# Altium integrated library TI Audio CODEC.IntLib: 199 symbols (part 11 of 17)
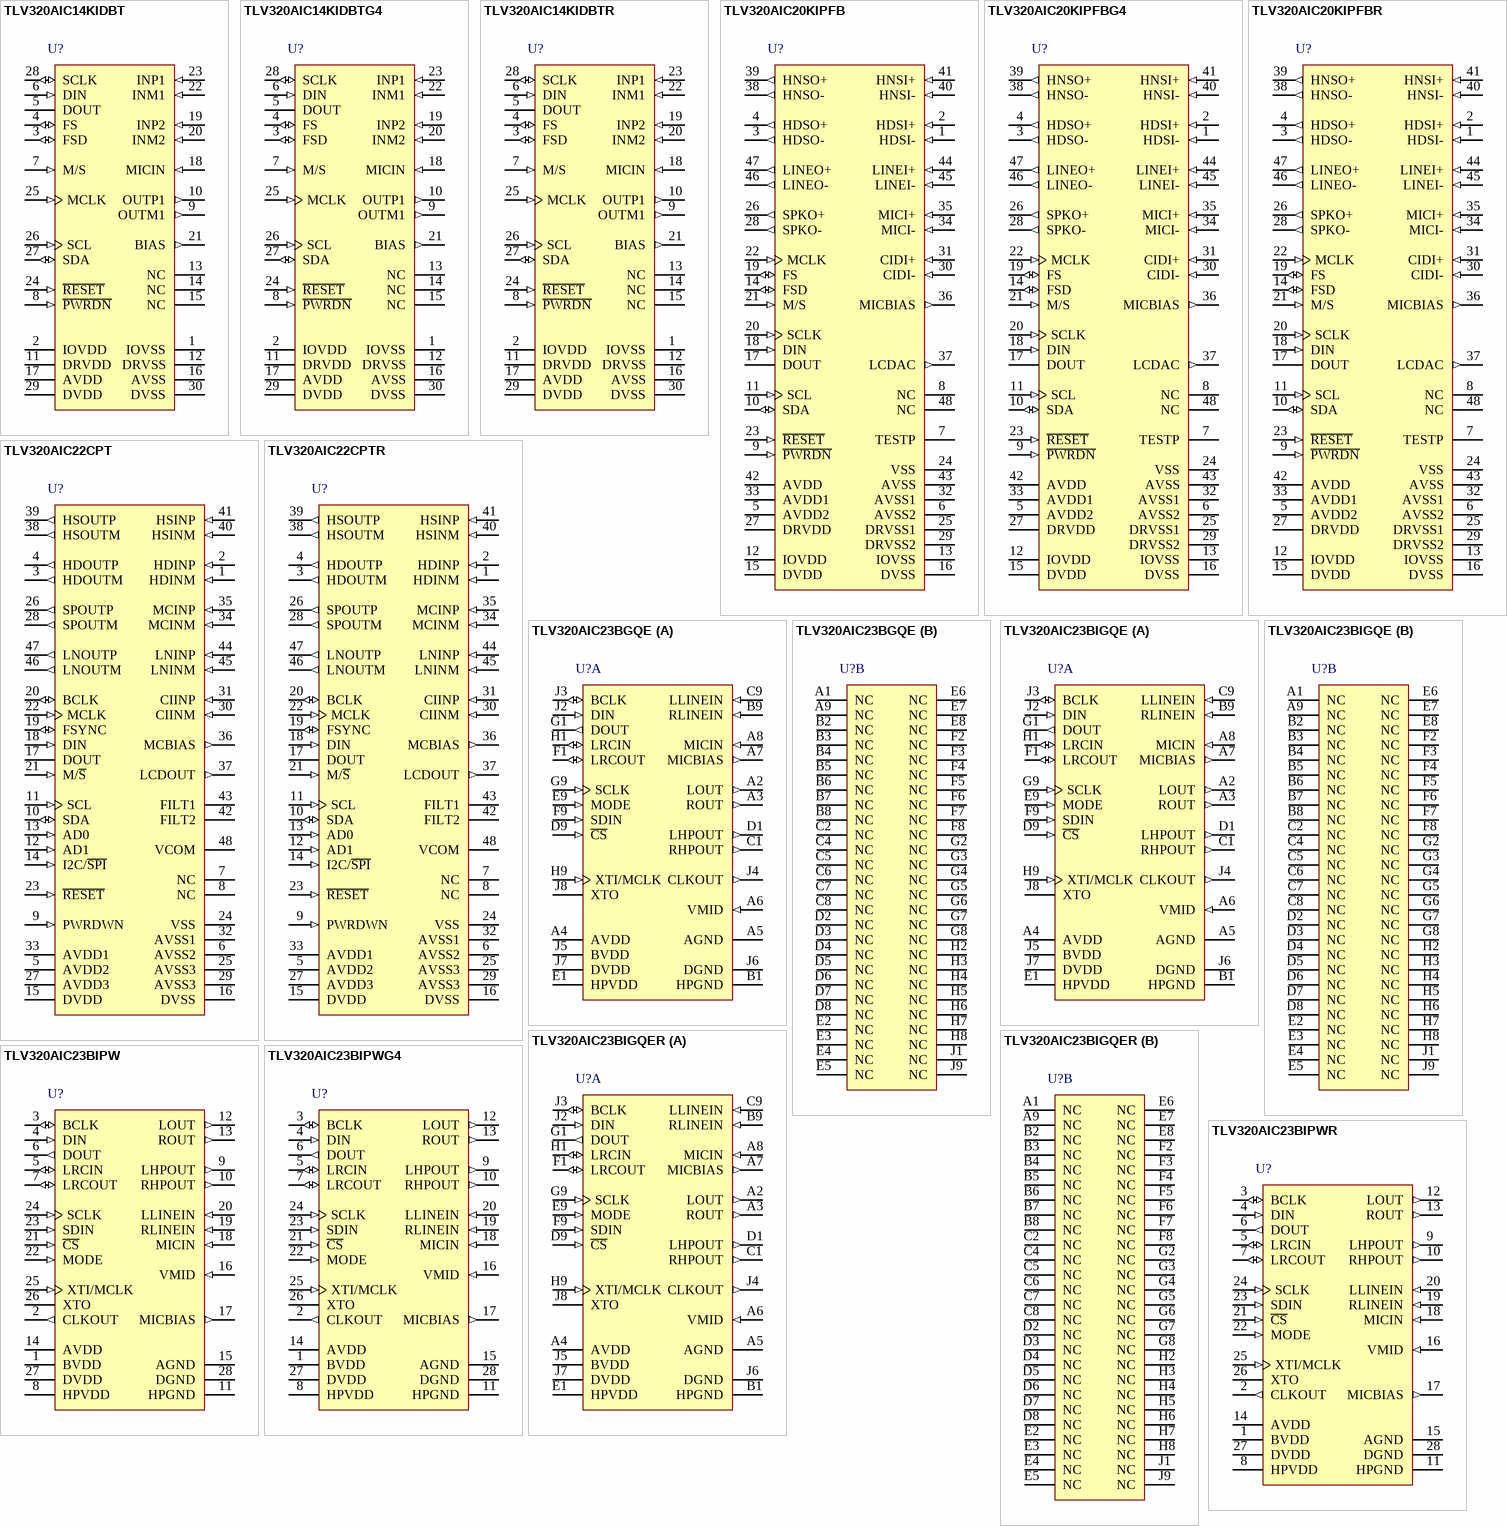
[diagram p23: symbols TLV320AIC14KIDBT to TLV320AIC23BIPWR]

## TLV320AIC23BIGQER
designator U?
Low-Power Stereo CODEC with HP Amplifier, 1 ADC and 1 DAC, 100 dB DAC SNR, -40 to 85 degC, 80-pin BGAMICROSTAR JUNIOR (GQE); Manufacturer: Texas Instruments; PartNumber: TLV320AIC23BIGQER; # ADCs (typ): 1; Battery Powered: TRUE; Control Interface: SPI, I2C; DAC SNR: 100; Digital Audio Interfaces: L, R, I2S, DSP; Sampling Rate (Max) (kHz): 96; DatasheetVersion: SLWS106H; PackageVersion: Oct-2005; PackageReference: GQE80; PackageDescription: 80-Ball Plastic Ball Grid Array, 5 x 5 mm Body, 0.5 mm Pitch; Supplier 1: Digi-Key; Supplier Part Number 1: TLV320AIC23BIGQER-ND; Supplier 2: Mouser; Supplier Part Number 2: 595-TLV320AIC23BIGER; # DACs: 1; Mounting Technology: Surface Mount; Code_JEDEC: MO-225; ComponentLink1Description: Datasheet; ComponentLink1URL: http://www.ti.com/general/docs/lit/getliterature.tsp?genericPartNumber=TLV320AIC23B&fileType=pdf
footprint GQE80 (BGA, 80-Leads, Body 5x5mm, Pitch 0.5mm)
part A pins: A2 LOUT (out) "Left stereo mixer-channel line output. Nominal output level is 1.0 VRMS.", A3 ROUT (out) "Right stereo mixer-channel line output. Nominal output level is 1.0 VRMS.", A4 AVDD (power) "Analog supply input. Voltage level is 3.3 V nominal.", A5 AGND (power) "Analog supply return", A6 VMID (in) "Midrail voltage decoupling input. 10-uF and 0.1-uF capacitors should be connected in parallel to this terminal for noise filtering. Voltage level is 1/2 AVDD nominal.", A7 MICBIAS (out) "Buffered low-noise-voltage output suitable for electret-microphone-capsule biasing. Voltage level is 3/4 AVDD nominal.", A8 MICIN (in) "Buffered amplifier input suitable for use with electret-microphone capsules. Without external resistors a default gain of 5 is provided. See Section 2.3.1.2 for details.", B1 HPGND (power) "Analog headphone amplifier supply return", B9 RLINEIN (in) "Right stereo-line input channel. Nominal 0-dB input level is 1 VRMS. Gain of -34.5 dB to 12 dB is provided in 1.5-dB steps.", C1 RHPOUT (out) "Right stereo mixer-channel amplified headphone output. Nominal 0-dB output level is 1 VRMS. Gain of -73 dB to 6 dB is provided in 1-dB steps.", C9 LLINEIN (in) "Left stereo-line input channel. Nominal 0-dB input level is 1 VRMS. Gain of -34.5 dB to 12 dB is provided in 1.5-dB steps.", D1 LHPOUT (out) "Left stereo mixer-channel amplified headphone output. Nominal 0-dB output level is 1 VRMS. Gain of -73 dB to 6 dB is provided in 1-dB steps.", D9 ~{CS} (in) "Control port input latch/address select. For SPI control mode this input acts as the data latch control. For 2-wire control mode this input defines the seventh bit in the device address field. See Section 3.1 for details.", E1 HPVDD (power) "Analog headphone amplifier supply input. Voltage level is 3.3 V nominal.", E9 MODE (in) "Serial-interface-mode input. See Section 3.1 for details.", F1 LRCOUT (io) "I2S ADC-word clock signal. In audio master mode, the AIC23B generates this framing signal and sends it to the DSP. In audio slave mode, the signal is generated by the DSP.", F9 SDIN (in) "Control-port serial-data input. For SPI and 2-wire control modes this is the serial-data input and also is used to select the control protocol after reset. See Section 3.1 for details.", G1 DOUT (out) "I2S format serial data output from the sigma-delta stereo ADC", G9 SCLK (in) "Control-port serial-data clock. For SPI and 2-wire control modes this is the serial-clock input. See Section 3.1 for details.", H1 LRCIN (io) "I2S DAC-word clock signal. In audio master mode, the AIC23B generates this framing signal and sends it to the DSP. In audio slave mode, the signal is generated by the DSP.", H9 XTI/MCLK (in) "Crystal or external-clock input. Used for derivation of all internal clocks on the AIC23B.", J2 DIN (in) "I2S format serial data input to the sigma-delta stereo DAC", J3 BCLK (io) "I2S serial-bit clock. In audio master mode, the AIC23B generates this signal and sends it to the DSP. In audio slave mode, the signal is generated by the DSP.", J4 CLKOUT (out) "Clock output. This is a buffered version of the XTI input and is available in 1X or 1/2X frequencies of XTI. Bit 07 in the sample rate control register controls frequency selection.", J5 BVDD (power) "Buffer supply input. Voltage range is from 2.7 V to 3.6 V.", J6 DGND (power) "Digital supply return", J7 DVDD (power) "Digital supply input. Voltage range is 1.4 V to 3.6 V.", J8 XTO "Crystal output. Connect to external crystal for applications where the AIC23B is the audio timing master. Not used in applications where external clock source is used."
part B pins: A1 NC "Not Used--No internal connection", A9 NC "Not Used--No internal connection", B2 NC "Not Used--No internal connection", B3 NC "Not Used--No internal connection", B4 NC "Not Used--No internal connection", B5 NC "Not Used--No internal connection", B6 NC "Not Used--No internal connection", B7 NC "Not Used--No internal connection", B8 NC "Not Used--No internal connection", C2 NC "Not Used--No internal connection", C4 NC "Not Used--No internal connection", C5 NC "Not Used--No internal connection", C6 NC "Not Used--No internal connection", C7 NC "Not Used--No internal connection", C8 NC "Not Used--No internal connection", D2 NC "Not Used--No internal connection", D3 NC "Not Used--No internal connection", D4 NC "Not Used--No internal connection", D5 NC "Not Used--No internal connection", D6 NC "Not Used--No internal connection", D7 NC "Not Used--No internal connection", D8 NC "Not Used--No internal connection", E2 NC "Not Used--No internal connection", E3 NC "Not Used--No internal connection", E4 NC "Not Used--No internal connection", E5 NC "Not Used--No internal connection", E6 NC "Not Used--No internal connection", E7 NC "Not Used--No internal connection", E8 NC "Not Used--No internal connection", F2 NC "Not Used--No internal connection", F3 NC "Not Used--No internal connection", F4 NC "Not Used--No internal connection", F5 NC "Not Used--No internal connection", F6 NC "Not Used--No internal connection", F7 NC "Not Used--No internal connection", F8 NC "Not Used--No internal connection", G2 NC "Not Used--No internal connection", G3 NC "Not Used--No internal connection", G4 NC "Not Used--No internal connection", G5 NC "Not Used--No internal connection", G6 NC "Not Used--No internal connection", G7 NC "Not Used--No internal connection", G8 NC "Not Used--No internal connection", H2 NC "Not Used--No internal connection", H3 NC "Not Used--No internal connection", H4 NC "Not Used--No internal connection", H5 NC "Not Used--No internal connection", H6 NC "Not Used--No internal connection", H7 NC "Not Used--No internal connection", H8 NC "Not Used--No internal connection", J1 NC "Not Used--No internal connection", J9 NC "Not Used--No internal connection"

## TLV320AIC23BIPW
designator U?
Low-Power Stereo CODEC with HP Amplifier, 1 ADC and 1 DAC, 100 dB DAC SNR, -40 to 85 degC, 28-pin TSSOP (PW), Green (RoHS & no Sb/Br); Manufacturer: Texas Instruments; PartNumber: TLV320AIC23BIPW; # ADCs (typ): 1; Battery Powered: TRUE; Control Interface: SPI, I2C; DAC SNR: 100; Digital Audio Interfaces: L, R, I2S, DSP; Sampling Rate (Max) (kHz): 96; DatasheetVersion: SLWS106H; PackageVersion: revG, Feb-2011; PackageReference: PW28; PackageDescription: 28-Pin Plastic Thin Small Outline Package 9.7 x 4.4 mm Body ,0.65 mm Pitch; Supplier 1: Digi-Key; Supplier Part Number 1: 296-15031-5-ND; Supplier 2: Farnell; Supplier Part Number 2: 1212374; Supplier 3: Newark; Supplier Part Number 3: 32H6514; Supplier 4: Mouser; Supplier Part Number 4: 595-TLV320AIC23BIPW; # DACs: 1; Mounting Technology: Surface Mount; Code_JEDEC: MO-153; ComponentLink1Description: Datasheet; ComponentLink1URL: http://www.ti.com/general/docs/lit/getliterature.tsp?genericPartNumber=TLV320AIC23B&fileType=pdf
footprint PW28_N (TSOP, 28-Leads, Body 9.7x4.4mm, Pitch 0.65mm, IPC Medium Density)
footprint PW28_L (TSOP, 28-Leads, Body 9.7x4.4mm, Pitch 0.65mm, IPC High Density)
footprint PW28_M (TSOP, 28-Leads, Body 9.7x4.4mm, Pitch 0.65mm, IPC Low Density)
pins: 1 BVDD (power) "Buffer supply input. Voltage range is from 2.7 V to 3.6 V.", 2 CLKOUT (out) "Clock output. This is a buffered version of the XTI input and is available in 1X or 1/2X frequencies of XTI. Bit 07 in the sample rate control register controls frequency selection.", 3 BCLK (io) "I2S serial-bit clock. In audio master mode, the AIC23B generates this signal and sends it to the DSP. In audio slave mode, the signal is generated by the DSP.", 4 DIN (in) "I2S format serial data input to the sigma-delta stereo DAC", 5 LRCIN (io) "I2S DAC-word clock signal. In audio master mode, the AIC23B generates this framing signal and sends it to the DSP. In audio slave mode, the signal is generated by the DSP.", 6 DOUT (out) "I2S format serial data output from the sigma-delta stereo ADC", 7 LRCOUT (io) "I2S ADC-word clock signal. In audio master mode, the AIC23B generates this framing signal and sends it to the DSP. In audio slave mode, the signal is generated by the DSP.", 8 HPVDD (power) "Analog headphone amplifier supply input. Voltage level is 3.3 V nominal.", 9 LHPOUT (out) "Left stereo mixer-channel amplified headphone output. Nominal 0-dB output level is 1 VRMS. Gain of -73 dB to 6 dB is provided in 1-dB steps.", 10 RHPOUT (out) "Right stereo mixer-channel amplified headphone output. Nominal 0-dB output level is 1 VRMS. Gain of -73 dB to 6 dB is provided in 1-dB steps.", 11 HPGND (power) "Analog headphone amplifier supply return", 12 LOUT (out) "Left stereo mixer-channel line output. Nominal output level is 1.0 VRMS.", 13 ROUT (out) "Right stereo mixer-channel line output. Nominal output level is 1.0 VRMS.", 14 AVDD (power) "Analog supply input. Voltage level is 3.3 V nominal.", 15 AGND (power) "Analog supply return", 16 VMID (in) "Midrail voltage decoupling input. 10-µF and 0.1-µF capacitors should be connected in parallel to this terminal for noise filtering. Voltage level is 1/2 AVDD nominal.", 17 MICBIAS (out) "Buffered low-noise-voltage output suitable for electret-microphone-capsule biasing. Voltage level is 3/4 AVDD nominal.", 18 MICIN (in) "Buffered amplifier input suitable for use with electret-microphone capsules. Without external resistors a default gain of 5 is provided. See Section 2.3.1.2 for details.", 19 RLINEIN (in) "Right stereo-line input channel. Nominal 0-dB input level is 1 VRMS. Gain of -34.5 dB to 12 dB is provided in 1.5-dB steps.", 20 LLINEIN (in) "Left stereo-line input channel. Nominal 0-dB input level is 1 VRMS. Gain of -34.5 dB to 12 dB is provided in 1.5-dB steps.", 21 ~{CS} (in) "Control port input latch/address select. For SPI control mode this input acts as the data latch control. For 2-wire control mode this input defines the seventh bit in the device address field. See Section 3.1 for details.", 22 MODE (in) "Serial-interface-mode input. See Section 3.1 for details.", 23 SDIN (in) "Control-port serial-data input. For SPI and 2-wire control modes this is the serial-data input and also is used to select the control protocol after reset. See Section 3.1 for details.", 24 SCLK (in) "Control-port serial-data clock. For SPI and 2-wire control modes this is the serial-clock input. See Section 3.1 for details.", 25 XTI/MCLK (in) "Crystal or external-clock input. Used for derivation of all internal clocks on the AIC23B.", 26 XTO "Crystal output. Connect to external crystal for applications where the AIC23B is the audio timing master. Not used in applications where external clock source is used.", 27 DVDD (power) "Digital supply input. Voltage range is 1.4 V to 3.6 V.", 28 DGND (power) "Digital supply return"

## TLV320AIC23BIPWG4
designator U?
Low-Power Stereo CODEC with HP Amplifier, 1 ADC and 1 DAC, 100 dB DAC SNR, -40 to 85 degC, 28-pin TSSOP (PW), Green (RoHS & no Sb/Br); Manufacturer: Texas Instruments; PartNumber: TLV320AIC23BIPWG4; # ADCs (typ): 1; Battery Powered: TRUE; Control Interface: SPI, I2C; DAC SNR: 100; Digital Audio Interfaces: L, R, I2S, DSP; Sampling Rate (Max) (kHz): 96; DatasheetVersion: SLWS106H; PackageVersion: revG, Feb-2011; PackageReference: PW28; PackageDescription: 28-Pin Plastic Thin Small Outline Package 9.7 x 4.4 mm Body ,0.65 mm Pitch; Supplier 1: Digi-Key; Supplier Part Number 1: TLV320AIC23BIPWG4-ND; Supplier 2: Newark; Supplier Part Number 2: 02M4266; Supplier 3: Mouser; Supplier Part Number 3: 595-TLV320AIC2BIPWG4; # DACs: 1; Mounting Technology: Surface Mount; Code_JEDEC: MO-153; ComponentLink1Description: Datasheet; ComponentLink1URL: http://www.ti.com/general/docs/lit/getliterature.tsp?genericPartNumber=TLV320AIC23B&fileType=pdf
footprint PW28_N (TSOP, 28-Leads, Body 9.7x4.4mm, Pitch 0.65mm, IPC Medium Density)
footprint PW28_L (TSOP, 28-Leads, Body 9.7x4.4mm, Pitch 0.65mm, IPC High Density)
footprint PW28_M (TSOP, 28-Leads, Body 9.7x4.4mm, Pitch 0.65mm, IPC Low Density)
pins: 1 BVDD (power) "Buffer supply input. Voltage range is from 2.7 V to 3.6 V.", 2 CLKOUT (out) "Clock output. This is a buffered version of the XTI input and is available in 1X or 1/2X frequencies of XTI. Bit 07 in the sample rate control register controls frequency selection.", 3 BCLK (io) "I2S serial-bit clock. In audio master mode, the AIC23B generates this signal and sends it to the DSP. In audio slave mode, the signal is generated by the DSP.", 4 DIN (in) "I2S format serial data input to the sigma-delta stereo DAC", 5 LRCIN (io) "I2S DAC-word clock signal. In audio master mode, the AIC23B generates this framing signal and sends it to the DSP. In audio slave mode, the signal is generated by the DSP.", 6 DOUT (out) "I2S format serial data output from the sigma-delta stereo ADC", 7 LRCOUT (io) "I2S ADC-word clock signal. In audio master mode, the AIC23B generates this framing signal and sends it to the DSP. In audio slave mode, the signal is generated by the DSP.", 8 HPVDD (power) "Analog headphone amplifier supply input. Voltage level is 3.3 V nominal.", 9 LHPOUT (out) "Left stereo mixer-channel amplified headphone output. Nominal 0-dB output level is 1 VRMS. Gain of -73 dB to 6 dB is provided in 1-dB steps.", 10 RHPOUT (out) "Right stereo mixer-channel amplified headphone output. Nominal 0-dB output level is 1 VRMS. Gain of -73 dB to 6 dB is provided in 1-dB steps.", 11 HPGND (power) "Analog headphone amplifier supply return", 12 LOUT (out) "Left stereo mixer-channel line output. Nominal output level is 1.0 VRMS.", 13 ROUT (out) "Right stereo mixer-channel line output. Nominal output level is 1.0 VRMS.", 14 AVDD (power) "Analog supply input. Voltage level is 3.3 V nominal.", 15 AGND (power) "Analog supply return", 16 VMID (in) "Midrail voltage decoupling input. 10-µF and 0.1-µF capacitors should be connected in parallel to this terminal for noise filtering. Voltage level is 1/2 AVDD nominal.", 17 MICBIAS (out) "Buffered low-noise-voltage output suitable for electret-microphone-capsule biasing. Voltage level is 3/4 AVDD nominal.", 18 MICIN (in) "Buffered amplifier input suitable for use with electret-microphone capsules. Without external resistors a default gain of 5 is provided. See Section 2.3.1.2 for details.", 19 RLINEIN (in) "Right stereo-line input channel. Nominal 0-dB input level is 1 VRMS. Gain of -34.5 dB to 12 dB is provided in 1.5-dB steps.", 20 LLINEIN (in) "Left stereo-line input channel. Nominal 0-dB input level is 1 VRMS. Gain of -34.5 dB to 12 dB is provided in 1.5-dB steps.", 21 ~{CS} (in) "Control port input latch/address select. For SPI control mode this input acts as the data latch control. For 2-wire control mode this input defines the seventh bit in the device address field. See Section 3.1 for details.", 22 MODE (in) "Serial-interface-mode input. See Section 3.1 for details.", 23 SDIN (in) "Control-port serial-data input. For SPI and 2-wire control modes this is the serial-data input and also is used to select the control protocol after reset. See Section 3.1 for details.", 24 SCLK (in) "Control-port serial-data clock. For SPI and 2-wire control modes this is the serial-clock input. See Section 3.1 for details.", 25 XTI/MCLK (in) "Crystal or external-clock input. Used for derivation of all internal clocks on the AIC23B.", 26 XTO "Crystal output. Connect to external crystal for applications where the AIC23B is the audio timing master. Not used in applications where external clock source is used.", 27 DVDD (power) "Digital supply input. Voltage range is 1.4 V to 3.6 V.", 28 DGND (power) "Digital supply return"

## TLV320AIC23BIPWR
designator U?
Low-Power Stereo CODEC with HP Amplifier, 1 ADC and 1 DAC, 100 dB DAC SNR, -40 to 85 degC, 28-pin TSSOP (PW), Green (RoHS & no Sb/Br); Manufacturer: Texas Instruments; PartNumber: TLV320AIC23BIPWR; # ADCs (typ): 1; Battery Powered: TRUE; Control Interface: SPI, I2C; DAC SNR: 100; Digital Audio Interfaces: L, R, I2S, DSP; Sampling Rate (Max) (kHz): 96; DatasheetVersion: SLWS106H; PackageVersion: revG, Feb-2011; PackageReference: PW28; PackageDescription: 28-Pin Plastic Thin Small Outline Package 9.7 x 4.4 mm Body ,0.65 mm Pitch; Supplier 1: Digi-Key; Supplier Part Number 1: 296-15031-2-ND; Supplier 2: Digi-Key; Supplier Part Number 2: 296-15031-1-ND; Supplier 3: Digi-Key; Supplier Part Number 3: 296-15031-6-ND; Supplier 4: Newark; Supplier Part Number 4: 32H6515; Supplier 5: Mouser; Supplier Part Number 5: 595-TLV320AIC23BIPWR; # DACs: 1; Mounting Technology: Surface Mount; Code_JEDEC: MO-153; ComponentLink1Description: Datasheet; ComponentLink1URL: http://www.ti.com/general/docs/lit/getliterature.tsp?genericPartNumber=TLV320AIC23B&fileType=pdf
footprint PW28_N (TSOP, 28-Leads, Body 9.7x4.4mm, Pitch 0.65mm, IPC Medium Density)
footprint PW28_L (TSOP, 28-Leads, Body 9.7x4.4mm, Pitch 0.65mm, IPC High Density)
footprint PW28_M (TSOP, 28-Leads, Body 9.7x4.4mm, Pitch 0.65mm, IPC Low Density)
pins: 1 BVDD (power) "Buffer supply input. Voltage range is from 2.7 V to 3.6 V.", 2 CLKOUT (out) "Clock output. This is a buffered version of the XTI input and is available in 1X or 1/2X frequencies of XTI. Bit 07 in the sample rate control register controls frequency selection.", 3 BCLK (io) "I2S serial-bit clock. In audio master mode, the AIC23B generates this signal and sends it to the DSP. In audio slave mode, the signal is generated by the DSP.", 4 DIN (in) "I2S format serial data input to the sigma-delta stereo DAC", 5 LRCIN (io) "I2S DAC-word clock signal. In audio master mode, the AIC23B generates this framing signal and sends it to the DSP. In audio slave mode, the signal is generated by the DSP.", 6 DOUT (out) "I2S format serial data output from the sigma-delta stereo ADC", 7 LRCOUT (io) "I2S ADC-word clock signal. In audio master mode, the AIC23B generates this framing signal and sends it to the DSP. In audio slave mode, the signal is generated by the DSP.", 8 HPVDD (power) "Analog headphone amplifier supply input. Voltage level is 3.3 V nominal.", 9 LHPOUT (out) "Left stereo mixer-channel amplified headphone output. Nominal 0-dB output level is 1 VRMS. Gain of -73 dB to 6 dB is provided in 1-dB steps.", 10 RHPOUT (out) "Right stereo mixer-channel amplified headphone output. Nominal 0-dB output level is 1 VRMS. Gain of -73 dB to 6 dB is provided in 1-dB steps.", 11 HPGND (power) "Analog headphone amplifier supply return", 12 LOUT (out) "Left stereo mixer-channel line output. Nominal output level is 1.0 VRMS.", 13 ROUT (out) "Right stereo mixer-channel line output. Nominal output level is 1.0 VRMS.", 14 AVDD (power) "Analog supply input. Voltage level is 3.3 V nominal.", 15 AGND (power) "Analog supply return", 16 VMID (in) "Midrail voltage decoupling input. 10-µF and 0.1-µF capacitors should be connected in parallel to this terminal for noise filtering. Voltage level is 1/2 AVDD nominal.", 17 MICBIAS (out) "Buffered low-noise-voltage output suitable for electret-microphone-capsule biasing. Voltage level is 3/4 AVDD nominal.", 18 MICIN (in) "Buffered amplifier input suitable for use with electret-microphone capsules. Without external resistors a default gain of 5 is provided. See Section 2.3.1.2 for details.", 19 RLINEIN (in) "Right stereo-line input channel. Nominal 0-dB input level is 1 VRMS. Gain of -34.5 dB to 12 dB is provided in 1.5-dB steps.", 20 LLINEIN (in) "Left stereo-line input channel. Nominal 0-dB input level is 1 VRMS. Gain of -34.5 dB to 12 dB is provided in 1.5-dB steps.", 21 ~{CS} (in) "Control port input latch/address select. For SPI control mode this input acts as the data latch control. For 2-wire control mode this input defines the seventh bit in the device address field. See Section 3.1 for details.", 22 MODE (in) "Serial-interface-mode input. See Section 3.1 for details.", 23 SDIN (in) "Control-port serial-data input. For SPI and 2-wire control modes this is the serial-data input and also is used to select the control protocol after reset. See Section 3.1 for details.", 24 SCLK (in) "Control-port serial-data clock. For SPI and 2-wire control modes this is the serial-clock input. See Section 3.1 for details.", 25 XTI/MCLK (in) "Crystal or external-clock input. Used for derivation of all internal clocks on the AIC23B.", 26 XTO "Crystal output. Connect to external crystal for applications where the AIC23B is the audio timing master. Not used in applications where external clock source is used.", 27 DVDD (power) "Digital supply input. Voltage range is 1.4 V to 3.6 V.", 28 DGND (power) "Digital supply return"

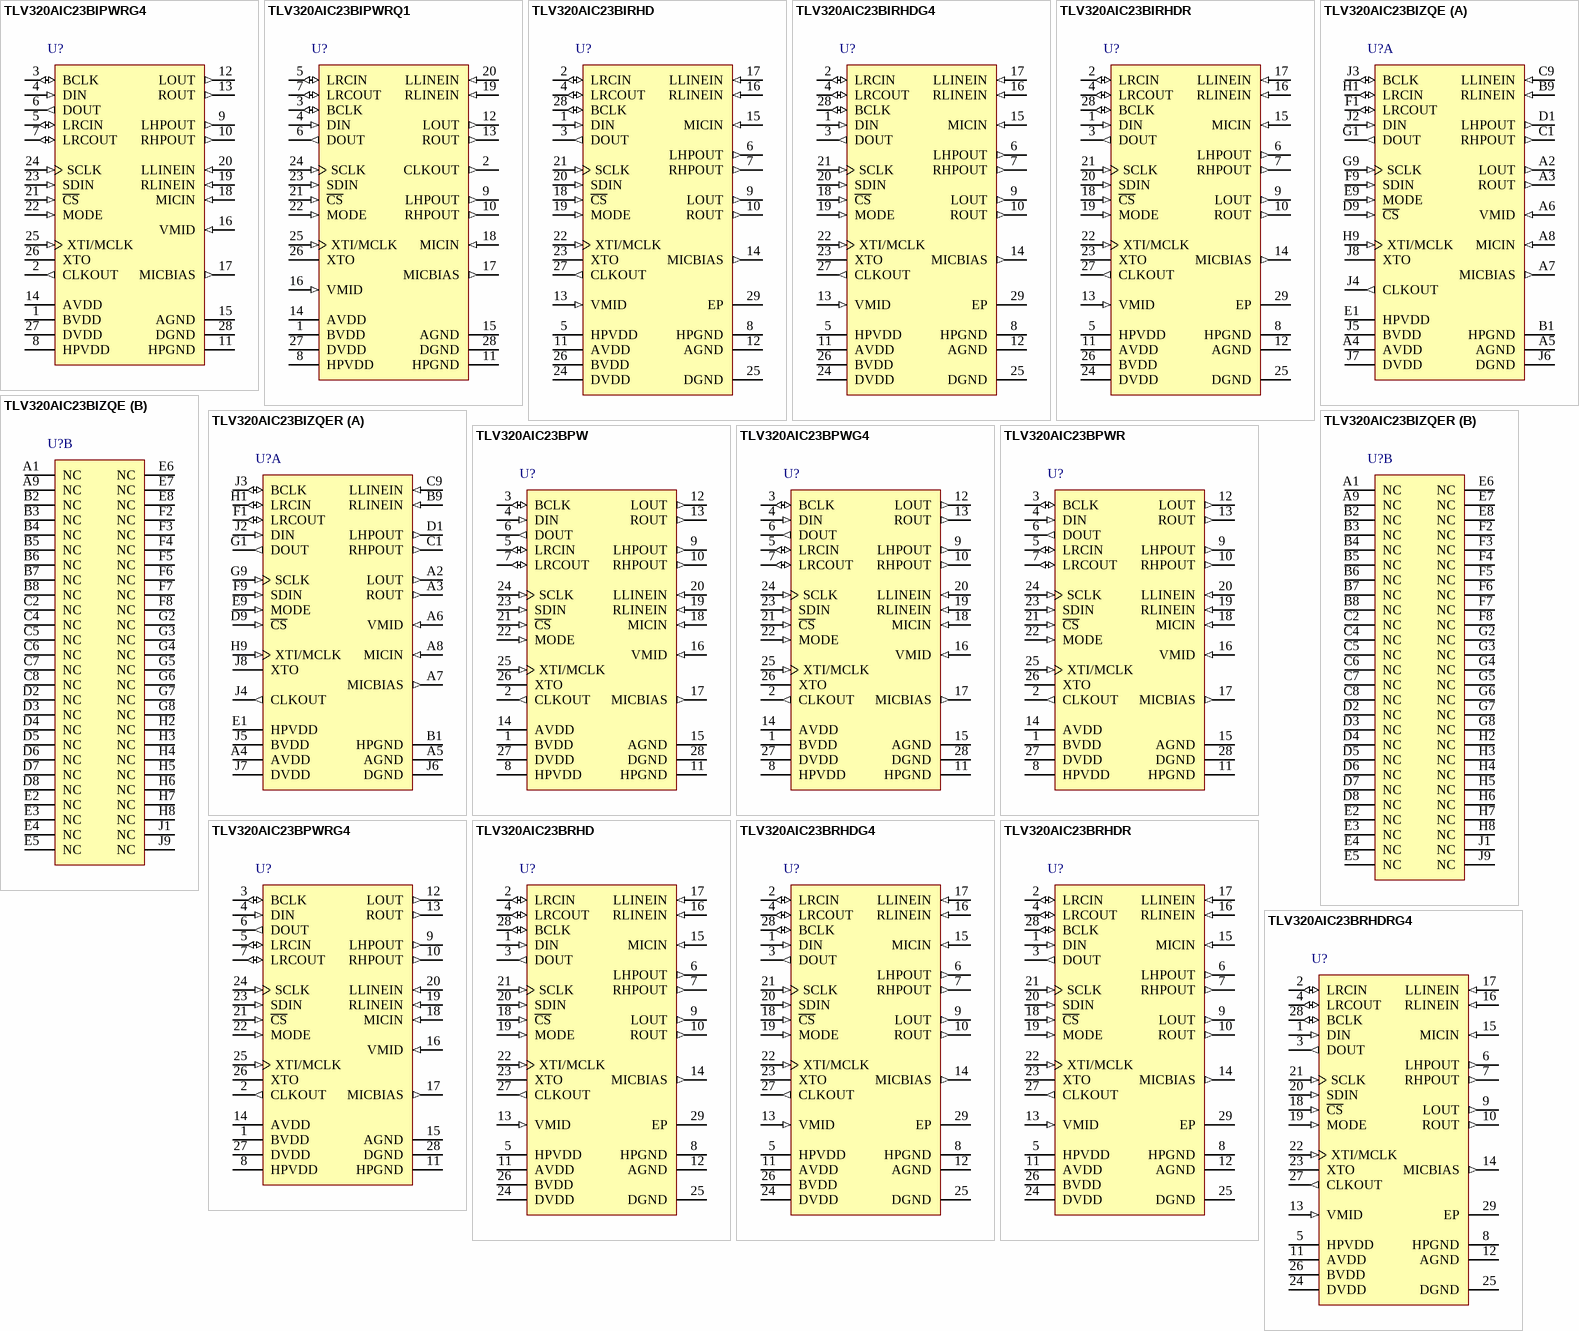
[diagram p8: symbols TLV320AIC23BIPWRG4 to TLV320AIC23BRHDRG4]

## TLV320AIC23BIPWRG4
designator U?
Low-Power Stereo CODEC with HP Amplifier, 1 ADC and 1 DAC, 100 dB DAC SNR, -40 to 85 degC, 28-pin TSSOP (PW), Green (RoHS & no Sb/Br); Manufacturer: Texas Instruments; PartNumber: TLV320AIC23BIPWRG4; # ADCs (typ): 1; Battery Powered: TRUE; Control Interface: SPI, I2C; DAC SNR: 100; Digital Audio Interfaces: L, R, I2S, DSP; Sampling Rate (Max) (kHz): 96; DatasheetVersion: SLWS106H; PackageVersion: revG, Feb-2011; PackageReference: PW28; PackageDescription: 28-Pin Plastic Thin Small Outline Package 9.7 x 4.4 mm Body ,0.65 mm Pitch; Supplier 1: Digi-Key; Supplier Part Number 1: TLV320AIC23BIPWRG4-ND; Supplier 2: Newark; Supplier Part Number 2: 71J8015; Supplier 3: Mouser; Supplier Part Number 3: 595-TLV320AIC23BIPG4; # DACs: 1; Mounting Technology: Surface Mount; Code_JEDEC: MO-153; ComponentLink1Description: Datasheet; ComponentLink1URL: http://www.ti.com/general/docs/lit/getliterature.tsp?genericPartNumber=TLV320AIC23B&fileType=pdf
footprint PW28_N (TSOP, 28-Leads, Body 9.7x4.4mm, Pitch 0.65mm, IPC Medium Density)
footprint PW28_L (TSOP, 28-Leads, Body 9.7x4.4mm, Pitch 0.65mm, IPC High Density)
footprint PW28_M (TSOP, 28-Leads, Body 9.7x4.4mm, Pitch 0.65mm, IPC Low Density)
pins: 1 BVDD (power) "Buffer supply input. Voltage range is from 2.7 V to 3.6 V.", 2 CLKOUT (out) "Clock output. This is a buffered version of the XTI input and is available in 1X or 1/2X frequencies of XTI. Bit 07 in the sample rate control register controls frequency selection.", 3 BCLK (io) "I2S serial-bit clock. In audio master mode, the AIC23B generates this signal and sends it to the DSP. In audio slave mode, the signal is generated by the DSP.", 4 DIN (in) "I2S format serial data input to the sigma-delta stereo DAC", 5 LRCIN (io) "I2S DAC-word clock signal. In audio master mode, the AIC23B generates this framing signal and sends it to the DSP. In audio slave mode, the signal is generated by the DSP.", 6 DOUT (out) "I2S format serial data output from the sigma-delta stereo ADC", 7 LRCOUT (io) "I2S ADC-word clock signal. In audio master mode, the AIC23B generates this framing signal and sends it to the DSP. In audio slave mode, the signal is generated by the DSP.", 8 HPVDD (power) "Analog headphone amplifier supply input. Voltage level is 3.3 V nominal.", 9 LHPOUT (out) "Left stereo mixer-channel amplified headphone output. Nominal 0-dB output level is 1 VRMS. Gain of -73 dB to 6 dB is provided in 1-dB steps.", 10 RHPOUT (out) "Right stereo mixer-channel amplified headphone output. Nominal 0-dB output level is 1 VRMS. Gain of -73 dB to 6 dB is provided in 1-dB steps.", 11 HPGND (power) "Analog headphone amplifier supply return", 12 LOUT (out) "Left stereo mixer-channel line output. Nominal output level is 1.0 VRMS.", 13 ROUT (out) "Right stereo mixer-channel line output. Nominal output level is 1.0 VRMS.", 14 AVDD (power) "Analog supply input. Voltage level is 3.3 V nominal.", 15 AGND (power) "Analog supply return", 16 VMID (in) "Midrail voltage decoupling input. 10-µF and 0.1-µF capacitors should be connected in parallel to this terminal for noise filtering. Voltage level is 1/2 AVDD nominal.", 17 MICBIAS (out) "Buffered low-noise-voltage output suitable for electret-microphone-capsule biasing. Voltage level is 3/4 AVDD nominal.", 18 MICIN (in) "Buffered amplifier input suitable for use with electret-microphone capsules. Without external resistors a default gain of 5 is provided. See Section 2.3.1.2 for details.", 19 RLINEIN (in) "Right stereo-line input channel. Nominal 0-dB input level is 1 VRMS. Gain of -34.5 dB to 12 dB is provided in 1.5-dB steps.", 20 LLINEIN (in) "Left stereo-line input channel. Nominal 0-dB input level is 1 VRMS. Gain of -34.5 dB to 12 dB is provided in 1.5-dB steps.", 21 ~{CS} (in) "Control port input latch/address select. For SPI control mode this input acts as the data latch control. For 2-wire control mode this input defines the seventh bit in the device address field. See Section 3.1 for details.", 22 MODE (in) "Serial-interface-mode input. See Section 3.1 for details.", 23 SDIN (in) "Control-port serial-data input. For SPI and 2-wire control modes this is the serial-data input and also is used to select the control protocol after reset. See Section 3.1 for details.", 24 SCLK (in) "Control-port serial-data clock. For SPI and 2-wire control modes this is the serial-clock input. See Section 3.1 for details.", 25 XTI/MCLK (in) "Crystal or external-clock input. Used for derivation of all internal clocks on the AIC23B.", 26 XTO "Crystal output. Connect to external crystal for applications where the AIC23B is the audio timing master. Not used in applications where external clock source is used.", 27 DVDD (power) "Digital supply input. Voltage range is 1.4 V to 3.6 V.", 28 DGND (power) "Digital supply return"

## TLV320AIC23BIPWRQ1
designator U?
Automotive Catalog Stereo Audio CODEC, 8 to 96 kHz, with Integrated Headphone Amp, 1 ADC and 1 DAC, 100 dB DAC SNR, -40 to 85 degC, 28-pin TSSOP (PW), Green (RoHS & no Sb/Br); Manufacturer: Texas Instruments; PartNumber: TLV320AIC23BIPWRQ1; # ADCs (typ): 1; Battery Powered: TRUE; Control Interface: SPI, I2C; DAC SNR: 100; Digital Audio Interfaces: L, R, I2S, DSP; Sampling Rate (Max) (kHz): 96; DatasheetVersion: SGLS240C; PackageVersion: revG, Feb-2011; PackageReference: PW28; PackageDescription: 28-Pin Plastic Thin Small Outline Package 9.7 x 4.4 mm Body ,0.65 mm Pitch; Supplier 1: Digi-Key; Supplier Part Number 1: TLV320AIC23BIPWRQ1-ND; Supplier 2: Mouser; Supplier Part Number 2: 595-TLV320AIC23BIPQ1; # DACs: 1; Headphone Driver: TRUE; Mounting Technology: Surface Mount; Code_JEDEC: MO-153; ComponentLink1Description: Datasheet; ComponentLink1URL: http://www.ti.com/general/docs/lit/getliterature.tsp?genericPartNumber=TLV320AIC23B-Q1&fileType=pdf
footprint PW28_N (TSOP, 28-Leads, Body 9.7x4.4mm, Pitch 0.65mm, IPC Medium Density)
footprint PW28_L (TSOP, 28-Leads, Body 9.7x4.4mm, Pitch 0.65mm, IPC High Density)
footprint PW28_M (TSOP, 28-Leads, Body 9.7x4.4mm, Pitch 0.65mm, IPC Low Density)
pins: 1 BVDD (power) "Buffer supply input. Voltage range is from 2.7 V to 3.6 V.", 2 CLKOUT (out) "Clock output. This is a buffered version of the XTI input and is available in 1X or 1/2X frequencies of XTI. Bit 07 in the sample rate control register controls frequency selection.", 3 BCLK (io) "I2S serial-bit clock. In audio master mode, the AIC23B generates this signal and sends it to the DSP. In audio slave mode, the signal is generated by the DSP.", 4 DIN (in) "I2S format serial data input to the sigma-delta stereo DAC", 5 LRCIN (io) "I2S DAC-word clock signal. In audio master mode, the AIC23B generates this framing signal and sends it to the DSP. In audio slave mode, the signal is generated by the DSP.", 6 DOUT (out) "I2S format serial data output from the sigma-delta stereo ADC", 7 LRCOUT (io) "I2S ADC-word clock signal. In audio master mode, the AIC23B generates this framing signal and sends it to the DSP. In audio slave mode, the signal is generated by the DSP.", 8 HPVDD (power) "Analog headphone amplifier supply input. Voltage level is 3.3 V nominal.", 9 LHPOUT (out) "Left stereo mixer-channel amplified headphone output. Nominal 0-dB output level is 1 VRMS. Gain of -73 dB to 6 dB is provided in 1-dB steps.", 10 RHPOUT (out) "Right stereo mixer-channel amplified headphone output. Nominal 0-dB output level is 1 VRMS. Gain of -73 dB to 6 dB is provided in 1-dB steps.", 11 HPGND (power) "Analog headphone amplifier supply return", 12 LOUT (out) "Left stereo mixer-channel amplified headphone output. Nominal 0-dB output level is 1 VRMS. Gain of -73 dB to 6 dB is provided in 1-dB steps.", 13 ROUT (out) "Right stereo mixer-channel amplified headphone output. Nominal 0-dB output level is 1 VRMS. Gain of -73 dB to 6 dB is provided in 1-dB steps.", 14 AVDD (power) "Analog supply input. Voltage level is 3.3 V nominal.", 15 AGND (power) "Analog supply return", 16 VMID (in) "Midrail voltage decoupling input. 10-uF and 0.1-uF capacitors should be connected in parallel to this terminal for noise filtering. Voltage level is 1/2 AVDD nominal.", 17 MICBIAS (out) "Buffered low-noise-voltage output suitable for electret-microphone-capsule biasing. Voltage level is 3/4 AVDD nominal.", 18 MICIN (in) "Buffered amplifier input suitable for use with electret-microphone capsules. Without external resistors a default gain of 5 is provided. See Section 2.3.1.2 for details.", 19 RLINEIN (in) "Right stereo-line input channel. Nominal 0-dB input level is 1 VRMS. Gain of -34.5 dB to 12 dB is provided in 1.5-dB steps.", 20 LLINEIN (in) "Left stereo-line input channel. Nominal 0-dB input level is 1 VRMS. Gain of -34.5 dB to 12 dB is provided in 1.5-dB steps.", 21 ~{CS} (in) "Control port input latch/address select. For SPI control mode this input acts as the data latch control.For 2-wire control mode this input defines the seventh bit in the device address field. See Section 3.1 for details", 22 MODE (in) "Serial-interface-mode input. See Section 3.1 for details.", 23 SDIN (in) "Control-port serial-data input. For SPI and 2-wire control modes this is the serial-data input and also is used to select the control protocol after reset. See Section 3.1 for details.", 24 SCLK (in) "Control-port serial-data clock. For SPI and 2-wire control modes this is the serial-clock input.  See Section 3.1 for details.", 25 XTI/MCLK (in) "Crystal or external-clock input. Used for derivation of all internal clocks on the AIC23B.", 26 XTO "Crystal output. Connect to external crystal for applications where the AIC23B is the audio timing master.Not used in applications where external clock source is used.", 27 DVDD (power) "Digital supply input. Voltage range is 1.4 V to 3.6 V.", 28 DGND (power) "Digital supply return"

## TLV320AIC23BIRHD
designator U?
Low-Power Stereo CODEC with HP Amplifier, 1 ADC and 1 DAC, 100 dB DAC SNR, -40 to 85 degC, 28-pin VQFN (RHD), Green (RoHS & no Sb/Br); Manufacturer: Texas Instruments; PartNumber: TLV320AIC23BIRHD; # ADCs (typ): 1; Battery Powered: TRUE; Control Interface: SPI, I2C; DAC SNR: 100; Digital Audio Interfaces: L, R, I2S, DSP; Sampling Rate (Max) (kHz): 96; DatasheetVersion: SLWS106H; PackageVersion: revF, Sep-2011; PackageReference: RHD28-3150X3150TP; PackageDescription: 28-Pin Plastic Quad Flatpack No-Lead, 5 x 5 mm Body, 0.5 mm Pitch, Exposed Pad; Supplier 1: Digi-Key; Supplier Part Number 1: 296-34472-5-ND; Supplier 2: Newark; Supplier Part Number 2: 82H5838; Supplier 3: Mouser; Supplier Part Number 3: 595-TLV320AIC23BIRHD; # DACs: 1; Mounting Technology: Surface Mount; Code_JEDEC: MO-220; ComponentLink1Description: Datasheet; ComponentLink1URL: http://www.ti.com/general/docs/lit/getliterature.tsp?genericPartNumber=TLV320AIC23B&fileType=pdf
footprint RHD28-3150X3150TP (QFN, 28-Leads, Body 5x5mm, Pitch 0.5mm, Thermal Pad 3.15x3.15mm, TI Recommended)
pins: 1 DIN (in) "I2S format serial data input to the sigma-delta stereo DAC", 2 LRCIN (io) "I2S DAC-word clock signal. In audio master mode, the AIC23B generates this framing signal and sends it to the DSP. In audio slave mode, the signal is generated by the DSP.", 3 DOUT (out) "I2S format serial data output from the sigma-delta stereo ADC", 4 LRCOUT (io) "I2S ADC-word clock signal. In audio master mode, the AIC23B generates this framing signal and sends it to the DSP. In audio slave mode, the signal is generated by the DSP.", 5 HPVDD (power) "Analog headphone amplifier supply input. Voltage level is 3.3 V nominal.", 6 LHPOUT (out) "Left stereo mixer-channel amplified headphone output. Nominal 0-dB output level is 1 VRMS. Gain of -73 dB to 6 dB is provided in 1-dB steps.", 7 RHPOUT (out) "Right stereo mixer-channel amplified headphone output. Nominal 0-dB output level is 1 VRMS. Gain of -73 dB to 6 dB is provided in 1-dB steps.", 8 HPGND (power) "Analog headphone amplifier supply return", 9 LOUT (out) "Left stereo mixer-channel line output. Nominal output level is 1.0 VRMS.", 10 ROUT (out) "Right stereo mixer-channel line output. Nominal output level is 1.0 VRMS.", 11 AVDD (power) "Analog supply input. Voltage level is 3.3 V nominal.", 12 AGND (power) "Analog supply return", 13 VMID (in) "Midrail voltage decoupling input. 10-uF and 0.1-uF capacitors should be connected in parallel to this terminal for noise filtering. Voltage level is 1/2 AVDD nominal.", 14 MICBIAS (out) "Buffered low-noise-voltage output suitable for electret-microphone-capsule biasing. Voltage level is 3/4 AVDD nominal.", 15 MICIN (in) "Buffered amplifier input suitable for use with electret-microphone capsules. Without external resistors a default gain of 5 is provided. See Section 2.3.1.2 for details.", 16 RLINEIN (in) "Right stereo-line input channel. Nominal 0-dB input level is 1 VRMS. Gain of -34.5 dB to 12 dB is provided in 1.5-dB steps.", 17 LLINEIN (in) "Left stereo-line input channel. Nominal 0-dB input level is 1 VRMS. Gain of -34.5 dB to 12 dB is provided in 1.5-dB steps.", 18 ~{CS} (in) "Control port input latch/address select. For SPI control mode this input acts as the data latch control. For 2-wire control mode this input defines the seventh bit in the device address field. See Section 3.1 for details.", 19 MODE (in) "Serial-interface-mode input. See Section 3.1 for details.", 20 SDIN (in) "Control-port serial-data input. For SPI and 2-wire control modes this is the serial-data input and also is used to select the control protocol after reset. See Section 3.1 for details.", 21 SCLK (in) "Control-port serial-data clock. For SPI and 2-wire control modes this is the serial-clock input. See Section 3.1 for details.", 22 XTI/MCLK (in) "Crystal or external-clock input. Used for derivation of all internal clocks on the AIC23B.", 23 XTO "Crystal output. Connect to external crystal for applications where the AIC23B is the audio timing master. Not used in applications where external clock source is used.", 24 DVDD (power) "Digital supply input. Voltage range is 1.4 V to 3.6 V.", 25 DGND (power) "Digital supply return", 26 BVDD (power) "Buffer supply input. Voltage range is from 2.7 V to 3.6 V", 27 CLKOUT (out) "Clock output. This is a buffered version of the XTI input and is available in 1X or 1/2X frequencies of XTI. Bit 07 in the sample rate control register controls frequency selection.", 28 BCLK (io) "I2S serial-bit clock. In audio master mode, the AIC23B generates this signal and sends it to the DSP. In audio slave mode, the signal is generated by the DSP.", 29 EP "Exposed pad."

## TLV320AIC23BIRHDG4
designator U?
Low-Power Stereo CODEC with HP Amplifier, 1 ADC and 1 DAC, 100 dB DAC SNR, -40 to 85 degC, 28-pin VQFN (RHD), Green (RoHS & no Sb/Br); Manufacturer: Texas Instruments; PartNumber: TLV320AIC23BIRHDG4; # ADCs (typ): 1; Battery Powered: TRUE; Control Interface: SPI, I2C; DAC SNR: 100; Digital Audio Interfaces: L, R, I2S, DSP; Sampling Rate (Max) (kHz): 96; DatasheetVersion: SLWS106H; PackageVersion: revF, Sep-2011; PackageReference: RHD28-3150X3150TP; PackageDescription: 28-Pin Plastic Quad Flatpack No-Lead, 5 x 5 mm Body, 0.5 mm Pitch, Exposed Pad; Supplier 1: Digi-Key; Supplier Part Number 1: TLV320AIC23BIRHDG4-ND; Supplier 2: Newark; Supplier Part Number 2: 73K9561; Supplier 3: Mouser; Supplier Part Number 3: 595-TLV320AIC23BIRG4; # DACs: 1; Mounting Technology: Surface Mount; Code_JEDEC: MO-220; ComponentLink1Description: Datasheet; ComponentLink1URL: http://www.ti.com/general/docs/lit/getliterature.tsp?genericPartNumber=TLV320AIC23B&fileType=pdf
footprint RHD28-3150X3150TP (QFN, 28-Leads, Body 5x5mm, Pitch 0.5mm, Thermal Pad 3.15x3.15mm, TI Recommended)
pins: 1 DIN (in) "I2S format serial data input to the sigma-delta stereo DAC", 2 LRCIN (io) "I2S DAC-word clock signal. In audio master mode, the AIC23B generates this framing signal and sends it to the DSP. In audio slave mode, the signal is generated by the DSP.", 3 DOUT (out) "I2S format serial data output from the sigma-delta stereo ADC", 4 LRCOUT (io) "I2S ADC-word clock signal. In audio master mode, the AIC23B generates this framing signal and sends it to the DSP. In audio slave mode, the signal is generated by the DSP.", 5 HPVDD (power) "Analog headphone amplifier supply input. Voltage level is 3.3 V nominal.", 6 LHPOUT (out) "Left stereo mixer-channel amplified headphone output. Nominal 0-dB output level is 1 VRMS. Gain of -73 dB to 6 dB is provided in 1-dB steps.", 7 RHPOUT (out) "Right stereo mixer-channel amplified headphone output. Nominal 0-dB output level is 1 VRMS. Gain of -73 dB to 6 dB is provided in 1-dB steps.", 8 HPGND (power) "Analog headphone amplifier supply return", 9 LOUT (out) "Left stereo mixer-channel line output. Nominal output level is 1.0 VRMS.", 10 ROUT (out) "Right stereo mixer-channel line output. Nominal output level is 1.0 VRMS.", 11 AVDD (power) "Analog supply input. Voltage level is 3.3 V nominal.", 12 AGND (power) "Analog supply return", 13 VMID (in) "Midrail voltage decoupling input. 10-uF and 0.1-uF capacitors should be connected in parallel to this terminal for noise filtering. Voltage level is 1/2 AVDD nominal.", 14 MICBIAS (out) "Buffered low-noise-voltage output suitable for electret-microphone-capsule biasing. Voltage level is 3/4 AVDD nominal.", 15 MICIN (in) "Buffered amplifier input suitable for use with electret-microphone capsules. Without external resistors a default gain of 5 is provided. See Section 2.3.1.2 for details.", 16 RLINEIN (in) "Right stereo-line input channel. Nominal 0-dB input level is 1 VRMS. Gain of -34.5 dB to 12 dB is provided in 1.5-dB steps.", 17 LLINEIN (in) "Left stereo-line input channel. Nominal 0-dB input level is 1 VRMS. Gain of -34.5 dB to 12 dB is provided in 1.5-dB steps.", 18 ~{CS} (in) "Control port input latch/address select. For SPI control mode this input acts as the data latch control. For 2-wire control mode this input defines the seventh bit in the device address field. See Section 3.1 for details.", 19 MODE (in) "Serial-interface-mode input. See Section 3.1 for details.", 20 SDIN (in) "Control-port serial-data input. For SPI and 2-wire control modes this is the serial-data input and also is used to select the control protocol after reset. See Section 3.1 for details.", 21 SCLK (in) "Control-port serial-data clock. For SPI and 2-wire control modes this is the serial-clock input. See Section 3.1 for details.", 22 XTI/MCLK (in) "Crystal or external-clock input. Used for derivation of all internal clocks on the AIC23B.", 23 XTO "Crystal output. Connect to external crystal for applications where the AIC23B is the audio timing master. Not used in applications where external clock source is used.", 24 DVDD (power) "Digital supply input. Voltage range is 1.4 V to 3.6 V.", 25 DGND (power) "Digital supply return", 26 BVDD (power) "Buffer supply input. Voltage range is from 2.7 V to 3.6 V", 27 CLKOUT (out) "Clock output. This is a buffered version of the XTI input and is available in 1X or 1/2X frequencies of XTI. Bit 07 in the sample rate control register controls frequency selection.", 28 BCLK (io) "I2S serial-bit clock. In audio master mode, the AIC23B generates this signal and sends it to the DSP. In audio slave mode, the signal is generated by the DSP.", 29 EP "Exposed pad."

## TLV320AIC23BIRHDR
designator U?
Low-Power Stereo CODEC with HP Amplifier, 1 ADC and 1 DAC, 100 dB DAC SNR, -40 to 85 degC, 28-pin VQFN (RHD), Green (RoHS & no Sb/Br); Manufacturer: Texas Instruments; PartNumber: TLV320AIC23BIRHDR; # ADCs (typ): 1; Battery Powered: TRUE; Control Interface: SPI, I2C; DAC SNR: 100; Digital Audio Interfaces: L, R, I2S, DSP; Sampling Rate (Max) (kHz): 96; DatasheetVersion: SLWS106H; PackageVersion: revF, Sep-2011; PackageReference: RHD28-3150X3150TP; PackageDescription: 28-Pin Plastic Quad Flatpack No-Lead, 5 x 5 mm Body, 0.5 mm Pitch, Exposed Pad; Supplier 1: Digi-Key; Supplier Part Number 1: TLV320AIC23BIRHDR-ND; Supplier 2: Newark; Supplier Part Number 2: 82H5839; Supplier 3: Mouser; Supplier Part Number 3: 595-TLV320AIC23BIRDR; # DACs: 1; Mounting Technology: Surface Mount; Code_JEDEC: MO-220; ComponentLink1Description: Datasheet; ComponentLink1URL: http://www.ti.com/general/docs/lit/getliterature.tsp?genericPartNumber=TLV320AIC23B&fileType=pdf
footprint RHD28-3150X3150TP (QFN, 28-Leads, Body 5x5mm, Pitch 0.5mm, Thermal Pad 3.15x3.15mm, TI Recommended)
pins: 1 DIN (in) "I2S format serial data input to the sigma-delta stereo DAC", 2 LRCIN (io) "I2S DAC-word clock signal. In audio master mode, the AIC23B generates this framing signal and sends it to the DSP. In audio slave mode, the signal is generated by the DSP.", 3 DOUT (out) "I2S format serial data output from the sigma-delta stereo ADC", 4 LRCOUT (io) "I2S ADC-word clock signal. In audio master mode, the AIC23B generates this framing signal and sends it to the DSP. In audio slave mode, the signal is generated by the DSP.", 5 HPVDD (power) "Analog headphone amplifier supply input. Voltage level is 3.3 V nominal.", 6 LHPOUT (out) "Left stereo mixer-channel amplified headphone output. Nominal 0-dB output level is 1 VRMS. Gain of -73 dB to 6 dB is provided in 1-dB steps.", 7 RHPOUT (out) "Right stereo mixer-channel amplified headphone output. Nominal 0-dB output level is 1 VRMS. Gain of -73 dB to 6 dB is provided in 1-dB steps.", 8 HPGND (power) "Analog headphone amplifier supply return", 9 LOUT (out) "Left stereo mixer-channel line output. Nominal output level is 1.0 VRMS.", 10 ROUT (out) "Right stereo mixer-channel line output. Nominal output level is 1.0 VRMS.", 11 AVDD (power) "Analog supply input. Voltage level is 3.3 V nominal.", 12 AGND (power) "Analog supply return", 13 VMID (in) "Midrail voltage decoupling input. 10-uF and 0.1-uF capacitors should be connected in parallel to this terminal for noise filtering. Voltage level is 1/2 AVDD nominal.", 14 MICBIAS (out) "Buffered low-noise-voltage output suitable for electret-microphone-capsule biasing. Voltage level is 3/4 AVDD nominal.", 15 MICIN (in) "Buffered amplifier input suitable for use with electret-microphone capsules. Without external resistors a default gain of 5 is provided. See Section 2.3.1.2 for details.", 16 RLINEIN (in) "Right stereo-line input channel. Nominal 0-dB input level is 1 VRMS. Gain of -34.5 dB to 12 dB is provided in 1.5-dB steps.", 17 LLINEIN (in) "Left stereo-line input channel. Nominal 0-dB input level is 1 VRMS. Gain of -34.5 dB to 12 dB is provided in 1.5-dB steps.", 18 ~{CS} (in) "Control port input latch/address select. For SPI control mode this input acts as the data latch control. For 2-wire control mode this input defines the seventh bit in the device address field. See Section 3.1 for details.", 19 MODE (in) "Serial-interface-mode input. See Section 3.1 for details.", 20 SDIN (in) "Control-port serial-data input. For SPI and 2-wire control modes this is the serial-data input and also is used to select the control protocol after reset. See Section 3.1 for details.", 21 SCLK (in) "Control-port serial-data clock. For SPI and 2-wire control modes this is the serial-clock input. See Section 3.1 for details.", 22 XTI/MCLK (in) "Crystal or external-clock input. Used for derivation of all internal clocks on the AIC23B.", 23 XTO "Crystal output. Connect to external crystal for applications where the AIC23B is the audio timing master. Not used in applications where external clock source is used.", 24 DVDD (power) "Digital supply input. Voltage range is 1.4 V to 3.6 V.", 25 DGND (power) "Digital supply return", 26 BVDD (power) "Buffer supply input. Voltage range is from 2.7 V to 3.6 V", 27 CLKOUT (out) "Clock output. This is a buffered version of the XTI input and is available in 1X or 1/2X frequencies of XTI. Bit 07 in the sample rate control register controls frequency selection.", 28 BCLK (io) "I2S serial-bit clock. In audio master mode, the AIC23B generates this signal and sends it to the DSP. In audio slave mode, the signal is generated by the DSP.", 29 EP "Exposed pad."